# Altium schematic symbol library Test point.Schlib: 1 symbol
Pins are listed as number, name and electrical type; pins without a type are passive.

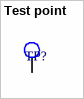
[diagram p0: symbol Test point]

## Test point
designator TP?  (value not drawn)
=description
pins: 1